# EAGLE library part ESP12-F (library gee_s)
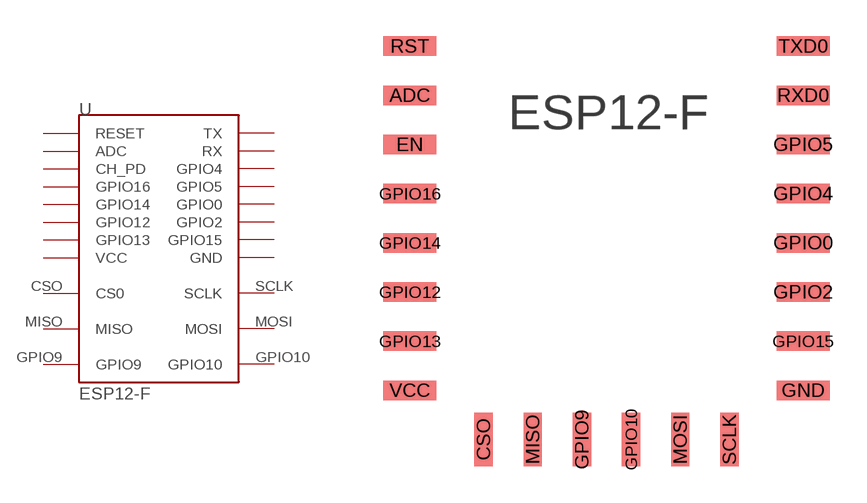
[diagram p29: symbol with the pads of ESP12-F; footprint ESP12-F]

Designator prefix -

## ESP12-F  [ESP12-F]
ADC  ADC
CSO  CS0
EN  CH_PD
GND  GND
GPIO0  GPIO0
GPIO2  GPIO2
GPIO4  GPIO4
GPIO5  GPIO5
GPIO9  GPIO9
GPIO10  GPIO10
GPIO12  GPIO12
GPIO13  GPIO13
GPIO14  GPIO14
GPIO15  GPIO15
GPIO16  GPIO16
MISO  MISO
MOSI  MOSI
RST  RESET
RXD0  RX
SCLK  SCLK
TXD0  TX
VCC  VCC

## Footprint ESP12-F (pad centres in mm)
ESP8266 Module 12
smd 2.2 x 0.8: ADC -8,4; EN -8,2; GND 8,-8; GPIO0 8,-2; GPIO2 8,-4; GPIO4 8,0; GPIO5 8,2; GPIO12 -8,-4; GPIO13 -8,-6; GPIO14 -8,-2; GPIO15 8,-6; GPIO16 -8,0; RST -8,6; RXD0 8,4; TXD0 8,6; VCC -8,-8
smd 0.8 x 2.2: CSO -5,-10; GPIO9 -1,-10; GPIO10 1,-10; MISO -3,-10; MOSI 3,-10; SCLK 5,-10